# EAGLE library part CON-HARTING-FLEX-M-RA-1.27-1515040X601XXX (library oresat-eagle)
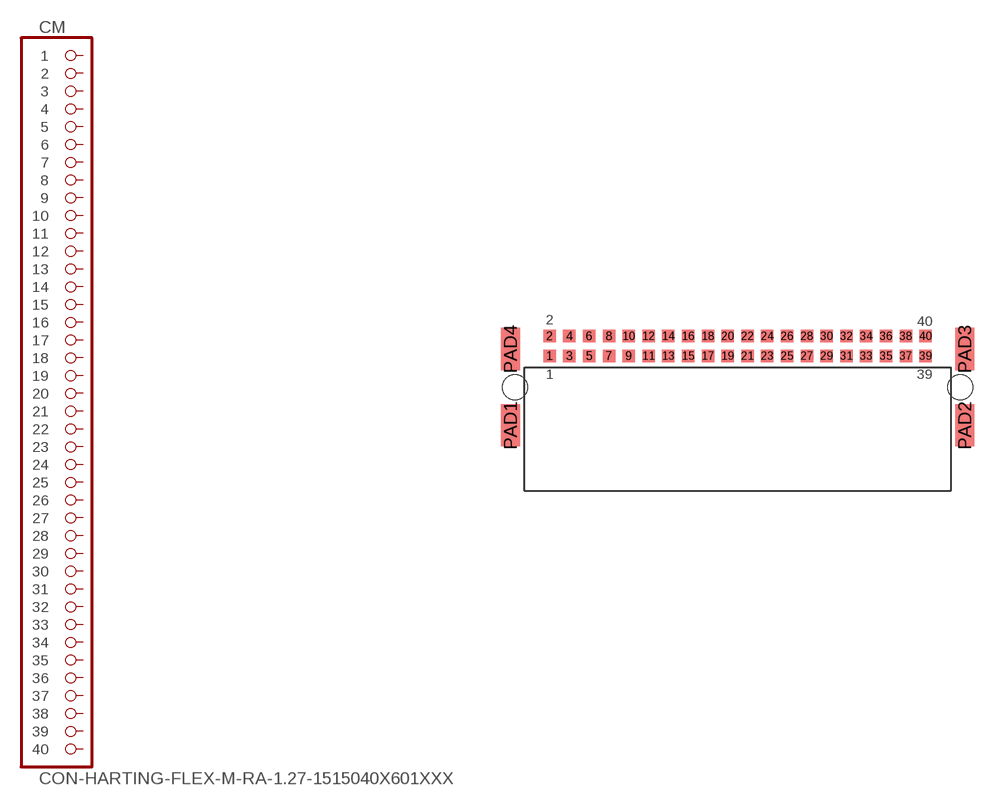
[diagram p2: symbol with the pads of CON-1.27-M-RA-HARTING-1515040X601XXX; footprint CON-1.27-M-RA-HARTING-1515040X601XXX]

Designator prefix CM

## CON-HARTING-FLEX-M-RA-1.27-1515040X601XXX  [CON-1.27-M-RA-HARTING-1515040X601XXX]
1  1  pas
2  2  pas
3  3  pas
4  4  pas
5  5  pas
6  6  pas
7  7  pas
8  8  pas
9  9  pas
10  10  pas
11  11  pas
12  12  pas
13  13  pas
14  14  pas
15  15  pas
16  16  pas
17  17  pas
18  18  pas
19  19  pas
20  20  pas
21  21  pas
22  22  pas
23  23  pas
24  24  pas
25  25  pas
26  26  pas
27  27  pas
28  28  pas
29  29  pas
30  30  pas
31  31  pas
32  32  pas
33  33  pas
34  34  pas
35  35  pas
36  36  pas
37  37  pas
38  38  pas
39  39  pas
40  40  pas

## Footprint CON-1.27-M-RA-HARTING-1515040X601XXX (pad centres in mm)
smd 0.8 x 0.8: 1 -12.065,2; 2 -12.065,3.27; 3 -10.795,2; 4 -10.795,3.27; 5 -9.525,2; 6 -9.525,3.27; 7 -8.255,2; 8 -8.255,3.27; 9 -6.985,2; 10 -6.985,3.27; 11 -5.715,2; 12 -5.715,3.27; 13 -4.445,2; 14 -4.445,3.27; 15 -3.175,2; 16 -3.175,3.27; 17 -1.905,2; 18 -1.905,3.27; 19 -0.635,2; 20 -0.635,3.27; 21 0.635,2; 22 0.635,3.27; 23 1.905,2; 24 1.905,3.27; 25 3.175,2; 26 3.175,3.27; 27 4.445,2; 28 4.445,3.27; 29 5.715,2; 30 5.715,3.27; 31 6.985,2; 32 6.985,3.27; 33 8.255,2; 34 8.255,3.27; 35 9.525,2; 36 9.525,3.27; 37 10.795,2; 38 10.795,3.27; 39 12.065,2; 40 12.065,3.27
smd 1.2 x 2.7: PAD1 -14.575,-2.45; PAD2 14.575,-2.45; PAD3 14.575,2.45; PAD4 -14.575,2.45
hole 1.6 at 14.275,0
hole 1.6 at -14.275,0